# Altium footprint library 发送端PCB.PcbLib: 17 footprints (part 1 of 2)
Each footprint in its own frame and in the unit in brackets; x right, y up, seen from the top. Pads: shape width x height; smd on the part's side, far side on the other; paste and mask are expansions set on the pad; w line width, h text height; cw(c..) or ccw(c..) is an arc to the next point about the centre after c.
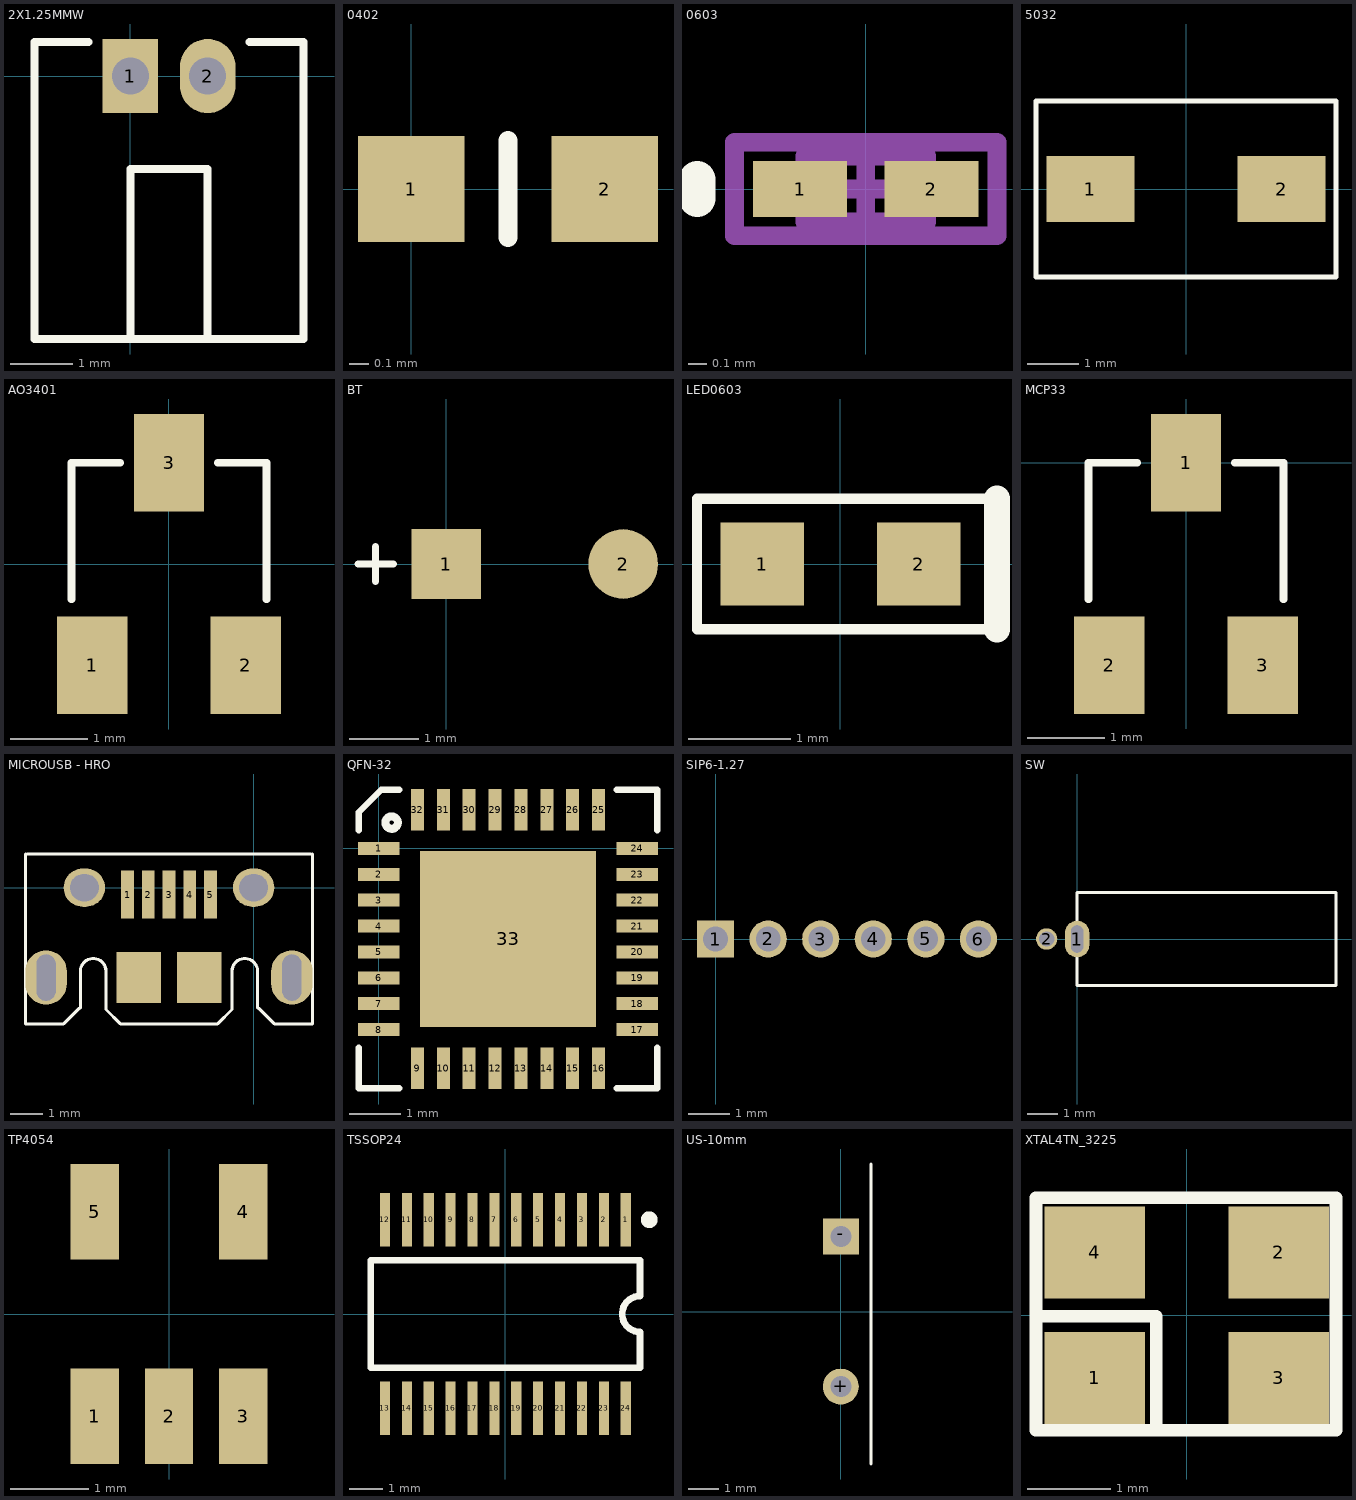
[diagram p0: the footprints below, top view; thin cyan lines are the x and y axes]

## 2X1.25MMW [mm]
height 2.65
pads (2):
  rect 0.9x1.2 hole 0.6: 1(0,0)
  oval 0.9x1.2 hole 0.6: 2(1.25,0)
Top Overlay:
  lines w0.127: -0.675,0.55 -1.55,0.55 -1.55,-4.25 2.8,-4.25 2.8,0.55 1.925,0.55 ; 0,-4.25 0,-1.5 1.25,-1.5 1.25,-4.25

## 0402 [mil]
pads (2):
  rect 22x22 smd: 1(0,0) 2(40,0)
Top Overlay:
  lines w3.94: 20,-10 20,10

## 0603 [mm] "Chip Inductor, Body 0.6x0.3mm, IPC High Density"
height 0.55
pads (2):
  rect 0.5x0.3 smd: 1(-0.35,0) 2(0.35,0)
Top Overlay:
  lines w0.2: -0.9,-0.05 -0.9,0.05
Mechanical 13:
  lines w0.1: -0.325,-0.175 0.325,-0.175 0.325,0.175 -0.325,0.175 -0.325,-0.175
Mechanical 15:
  lines w0.1: -0.175,0 0.175,0 ; 0,-0.175 0,0.175 ; -0.7,-0.25 0.7,-0.25 0.7,0.25 -0.7,0.25 -0.7,-0.25
3D body: height 0.55, standoff 0, extent -0.325,-0.175 0.325,0.175

## 5032 [mm]
pads (2):
  rect 1.7x1.27 smd: 1(-1.85,0) 2(1.85,0)
Top Overlay:
  lines w0.1: -2.9,-1.7 2.9,-1.7 2.9,1.7 -2.9,1.7 -2.9,-1.7

## AO3401 [mm]
pads (3):
  rect 0.915x1.27 smd: 1(-1,-1.318) 2(1,-1.318) 3(0,1.318)
Top Overlay:
  lines w0.1: -1.27,-0.46 -1.27,1.318 -0.635,1.318 ; 0.635,1.318 1.27,1.318 1.27,-0.46

## BT [mm]
pads (2):
  rect 1x1 smd: 1(0,0)
  round 1 smd: 2(2.54,0)
Top Overlay:
  lines w0.1: -1.27,0 -0.762,0 ; -1.016,-0.254 -1.016,0.254

## LED0603 [mil]
pads (2):
  rect 32x32 smd: 1(-30,0) 2(30,0)
Top Overlay:
  lines w3.94: 60,-25 -50,-25 -55,-25 -55,25 60,25
  lines w10: 60,-25 60,25

## MCP33 [mm]
pads (3):
  rect 0.915x1.27 smd: 1(0,0) 2(-1,-2.635) 3(1,-2.635)
Top Overlay:
  lines w0.1: -1.27,-1.778 -1.27,0 -0.635,0 ; 0.635,0 1.27,0 1.27,-1.778

## MICROUSB - HRO [mm]
pads (11):
  rect 0.4x1.5 smd: 1(-3.95,-0.22) 2(-3.3,-0.22) 3(-2.65,-0.22) 4(-2,-0.22) 5(-1.35,-0.22)
  oval 1.3x1.7 hole 0.6 slot 1.45 at 90 deg: ""(-6.5,-2.82) ""(1.2,-2.82)
  oval 1.3x1.2 hole 0.85 slot 0.9 at 0 deg: ""(-5.3,0) ""(0,0)
  rect 1.4x1.6 smd: ""(-3.6,-2.82) ""(-1.7,-2.82)
Top Overlay:
  lines w0.1: -7.15,1.05 -7.15,-4.27 -5.952,-4.27 -5.458,-3.776 -5.425,-3.776 -5.425,-2.62 cw(c-5.025,-2.62) -4.625,-2.62 -4.625,-3.776 -4.625,-3.819 -4.174,-4.27 -1.126,-4.27 -0.675,-3.819 -0.675,-3.776 -0.675,-2.62 cw(c-0.275,-2.62) 0.125,-2.62 0.125,-3.776 0.158,-3.776 0.652,-4.27 1.85,-4.27 1.85,1.05 ; -7.095,1.05 1.795,1.05

## QFN-32 [mm]
pads (33):
  rect 0.8x0.25 smd: 1(0,0) 2(0,-0.5) 3(0,-1) 4(0,-1.5) 5(0,-2) 6(0,-2.5) 7(0,-3) 8(0,-3.5) 17(5,-3.5) 18(5,-3) 19(5,-2.5) 20(5,-2) 21(5,-1.5) 22(5,-1) 23(5,-0.5) 24(5,0)
  rect 0.25x0.8 smd: 9(0.75,-4.25) 10(1.25,-4.25) 11(1.75,-4.25) 12(2.25,-4.25) 13(2.75,-4.25) 14(3.25,-4.25) 15(3.75,-4.25) 16(4.25,-4.25) 25(4.25,0.75) 26(3.75,0.75) 27(3.25,0.75) 28(2.75,0.75) 29(2.25,0.75) 30(1.75,0.75) 31(1.25,0.75) 32(0.75,0.75)
  rect 3.4x3.4 smd: 33(2.5,-1.75)
Top Overlay:
  circle w0.152: c0.25,0.5 r0.12
  lines w0.127: -0.386,-3.85 -0.386,-4.636 0.4,-4.636 ; -0.386,0.35 -0.386,0.7 0.05,1.137 0.4,1.137 ; 4.6,-4.636 5.386,-4.636 5.386,-3.85 ; 4.6,1.137 5.386,1.137 5.386,0.35

## SIP6-1.27 [mm]
pads (6):
  rect 0.9x0.9 hole 0.6: 1(0,0)
  round 0.9 hole 0.6: 2(1.27,0) 3(2.54,0) 4(3.81,0) 5(5.08,0) 6(6.35,0)

## SW [mm]
pads (2):
  oval 0.8x1.2 hole 0.4 slot 0.9 at 90 deg: 1(0,0)
  round 0.7 hole 0.508: 2(-1,0)
Top Overlay:
  lines w0.1: 0,-1.524 8.5,-1.524 8.5,1.524 0,1.524 0,-1.52

## TP4054 [mm]
pads (5):
  rect 0.62x1.22 smd: 1(-0.95,-1.31) 2(0,-1.31) 3(0.95,-1.31) 4(0.95,1.31) 5(-0.95,1.31)

## TSSOP24 [mm] "Shrink Small Outline; 24 Leads; Body Width 4.4 mm; Pitch 0.65 mm"
height 1.1
pads (24):
  rect 0.3x1.6 smd: 1(3.575,2.8) 2(2.925,2.8) 3(2.275,2.8) 4(1.625,2.8) 5(0.975,2.8) 6(0.325,2.8) 7(-0.325,2.8) 8(-0.975,2.8) 9(-1.625,2.8) 10(-2.275,2.8) 11(-2.925,2.8) 12(-3.575,2.8) 13(-3.575,-2.8) 14(-2.925,-2.8) 15(-2.275,-2.8) 16(-1.625,-2.8) 17(-0.975,-2.8) 18(-0.325,-2.8) 19(0.325,-2.8) 20(0.975,-2.8) 21(1.625,-2.8) 22(2.275,-2.8) 23(2.925,-2.8) 24(3.575,-2.8)
Top Overlay:
  circle w0.25: c4.275,2.8 r0.125
  lines w0.2: -4,-1.6 -4,1.6 4,1.6 4,0.533 ccw(c4,0) 4,-0.533 4,-1.6 -4,-1.6

## US-10mm [mm]
pads (2):
  round 1.2 hole 0.7: +(0,-2.5)
  rect 1.2x1.2 hole 0.7: -(0,2.5)
Top Overlay:
  lines w0.1: 1.016,-5.08 1.016,4.92

## XTAL4TN_3225 [mm]
height 1.4
pads (4):
  rect 1.2x1.1 smd: 1(-1.1,-0.75) 2(1.1,0.75) 3(1.1,-0.75) 4(-1.1,0.75)
Top Overlay:
  lines w0.15: -1.749,-0.012 -0.363,-0.012 ; -0.363,-1.333 -0.363,-0.022 ; -1.8,-1.376 1.786,-1.376 1.786,1.4 -1.8,1.4 -1.8,-1.376